# EAGLE library part 104031-0811 (library SamacSys_Parts)
microSD 1.10mm SMT push-pull memory card microSD 1.10mm SMT push-pull memory card Source: Datasheet <http://www.molex.com/webdocs/datasheets/pdf/en-us/1040310811_MEMORY_CARD_SOCKET.pdf>
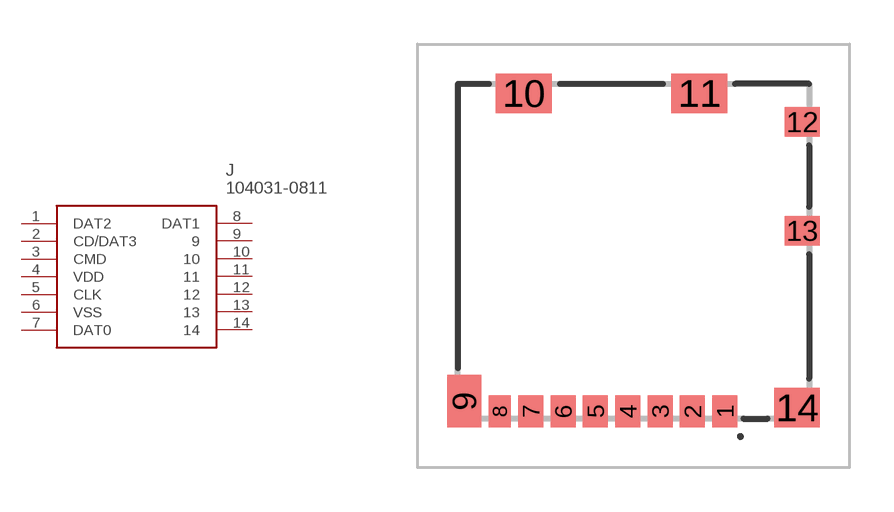
[diagram p0: symbol with the pads of 1040310811; footprint 1040310811]

Designator prefix J

## 104031-0811 (Description: microSD 1.10mm SMT push-pull memory card microSD 1.10mm SMT push-pull memory card; Height: 1.42mm; Manufacturer_Name: Molex; Manufacturer_Part_Number: 104031-0811; Mouser_Part_Number: 538-104031-0811; Mouser_Price-Stock: https://www.mouser.co.uk/ProductDetail/Molex/104031-0811?qs=udsGRKD4nA3Tvy7wqky%252BuA%3D%3D)  [1040310811]
1  DAT2
2  CD/DAT3
3  CMD
4  VDD
5  CLK
6  VSS
7  DAT0
8  DAT1
9  9
10  10
11  11
12  12
13  13
14  14

## Footprint 1040310811 (pad centres in mm)
104031-0811
smd 0.85 x 1.1: 1 3.105,-5.294; 2 2.005,-5.294; 3 0.905,-5.294; 4 -0.195,-5.294; 5 -1.295,-5.294; 6 -2.395,-5.294; 7 -3.495,-5.294
smd 0.75 x 1.1: 8 -4.545,-5.294
smd 1.17 x 1.8: 9 -5.755,-4.944
smd 1.9 x 1.35: 10 -3.73,5.531; 11 2.24,5.531
smd 1.2 x 1: 12 5.74,4.556; 13 5.74,0.856
smd 1.55 x 1.35: 14 5.565,-5.169